# EAGLE library part 5077CR-16-SMC2-BK-TR (library FaBo-Connetor)
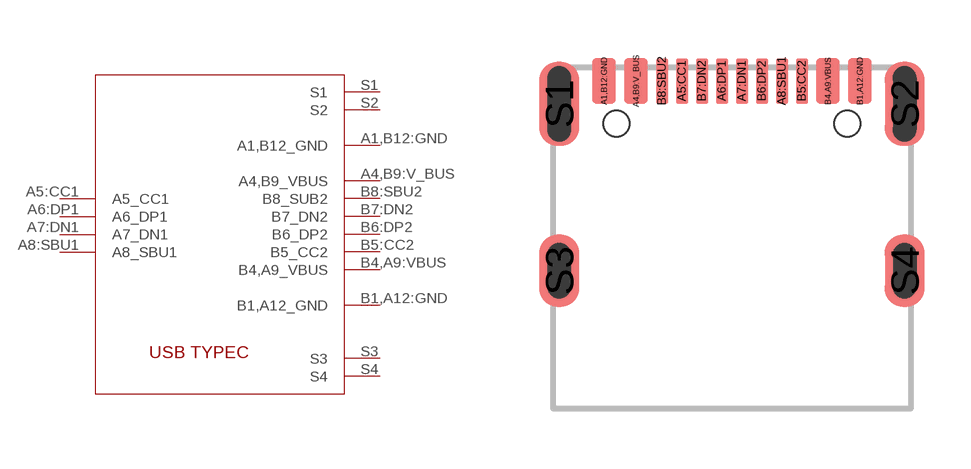
[diagram p6: symbol with the pads of 5077CR-16SMC2-BK-TR; footprint 5077CR-16SMC2-BK-TR]

Designator prefix -

## 5077CR-16-SMC2-BK-TR  [5077CR-16SMC2-BK-TR]
A1,B12:GND  A1,B12_GND
A4,B9:V_BUS  A4,B9_VBUS
A5:CC1  A5_CC1
A6:DP1  A6_DP1
A7:DN1  A7_DN1
A8:SBU1  A8_SBU1
B1,A12:GND  B1,A12_GND
B4,A9:VBUS  B4,A9_VBUS
B5:CC2  B5_CC2
B6:DP2  B6_DP2
B7:DN2  B7_DN2
B8:SBU2  B8_SUB2
S1  S1
S2  S2
S3  S3
S4  S4

## Footprint 5077CR-16SMC2-BK-TR (pad centres in mm)
smd 0.6 x 1.14: A1,B12:GND -3.2,0; A4,B9:V_BUS -2.4,0; B1,A12:GND 3.2,0; B4,A9:VBUS 2.4,0
smd 0.3 x 1.14: A5:CC1 -1.25,0; A6:DP1 -0.25,0; A7:DN1 0.25,0; A8:SBU1 1.25,0; B5:CC2 1.75,0; B6:DP2 0.75,0; B7:DN2 -0.75,0; B8:SBU2 -1.75,0
smd 1 x 2.1: S1 -4.32,-0.57; S2 4.32,-0.57
smd 1 x 1.8: S3 -4.32,-4.75; S4 4.32,-4.75
hole 0.65 at -2.89,-1.07
hole 0.65 at 2.89,-1.07